# Altium footprint library Measurement Specialties FootPrints.PcbLib: 1 footprints
Each footprint in its own frame and in the unit in brackets; x right, y up, seen from the top. Pads: shape width x height; smd on the part's side, far side on the other; paste and mask are expansions set on the pad; w line width, h text height; cw(c..) or ccw(c..) is an arc to the next point about the centre after c.
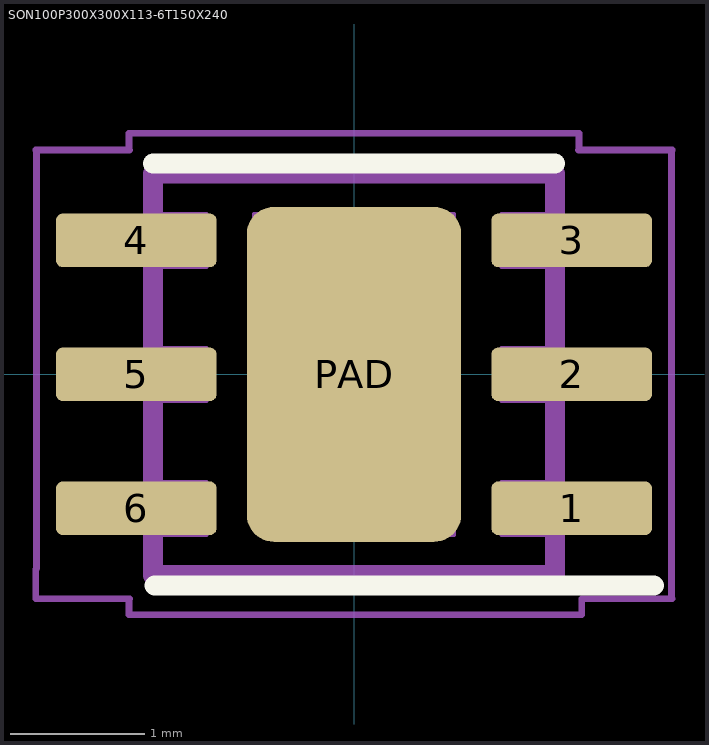
[diagram p0: the footprint, top view; thin cyan lines are the x and y axes]

## SON100P300X300X113-6T150X240 [mm] "IPC7351C"
pads (7):
  rrect25% 1.2x0.4 smd: 1(1.625,-1) 2(1.625,0) 3(1.625,1) 4(-1.625,1) 5(-1.625,0) 6(-1.625,-1)
  rrect25% 1.6x2.5 smd: PAD(0,0)
Top Overlay:
  lines w0.15: -1.5,1.575 1.5,1.575 ; -1.487,-1.575 2.238,-1.575
Mechanical 11:
  lines w0.15: -1.5,-1.5 -1.5,1.5 1.5,1.5 1.5,-1.5 -1.5,-1.5
Mechanical 12:
  lines w0.025: -1.5,-1.5 -1.5,1.5 1.5,1.5 1.5,-1.5 -1.5,-1.5 ; -1.5,-1.2 -1.5,-0.8 -1.1,-0.8 -1.1,-1.2 -1.5,-1.2 ; -1.5,-0.2 -1.5,0.2 -1.1,0.2 -1.1,-0.2 -1.5,-0.2 ; -1.5,0.8 -1.1,0.8 -1.1,1.2 -1.5,1.2 -1.5,0.8 ; -0.75,-0.775 -0.75,1.2 0.75,1.2 0.75,-1.2 -0.325,-1.2 -0.75,-0.775 ; 1.1,-1.2 1.5,-1.2 1.5,-0.8 1.1,-0.8 1.1,-1.2 ; 1.1,-0.2 1.5,-0.2 1.5,0.2 1.1,0.2 1.1,-0.2 ; 1.1,0.8 1.5,0.8 1.5,1.2 1.1,1.2 1.1,0.8
Mechanical 15:
  lines w0.05: 1.7,-1.675 2.375,-1.675 2.37,-1.67 2.37,-1.45 2.37,1.55 2.37,1.67 2.375,1.675 2.175,1.675 1.675,1.675 1.68,1.68 1.68,1.8 -1.68,1.8 -1.68,1.68 -1.675,1.675 -2.25,1.675 -2.375,1.675 -2.37,1.67 -2.37,1.5 -2.37,-1.45 -2.375,-1.455 -2.375,-1.675 -1.675,-1.675 -1.68,-1.68 -1.68,-1.795 1.7,-1.795 1.7,-1.675 ; 1.7,-1.675 1.7,-1.675
Mechanical 16:
  text "Designator" at 0,0 h1.2
3D body "User Library-HTU21.STEP": height 0.9, standoff -0.01, extent -1.501,-1.5 1.501,1.5